# EAGLE library part MAX2606 (library sid_max)
Maxim 2606 Voltage controlled oscillator , 6 pin SOT-23 tiny 6 package
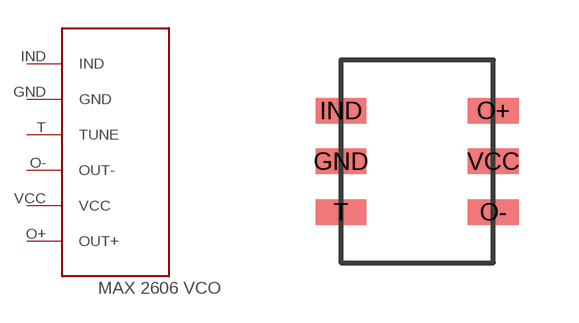
[diagram p0: symbol with the pads of SOT23; footprint SOT23]

Designator prefix -

## MAX2606  [SOT23]
GND  GND  pwr
IND  IND
O+  OUT+  out
O-  OUT-  out
T  TUNE  in
VCC  VCC  pwr

## Footprint SOT23 (pad centres in mm)
smd 1.27 x 0.635: GND -21.59,5.08; IND -21.59,6.35; O+ -17.78,6.35; O- -17.78,3.81; T -21.59,3.81; VCC -17.78,5.08